# EAGLE library part LMC660 (library national_semiconductor)
CMOS Quad Operational Amplifier Source: http://www.national.com/JPN/ds/LM/LMC660.pdf
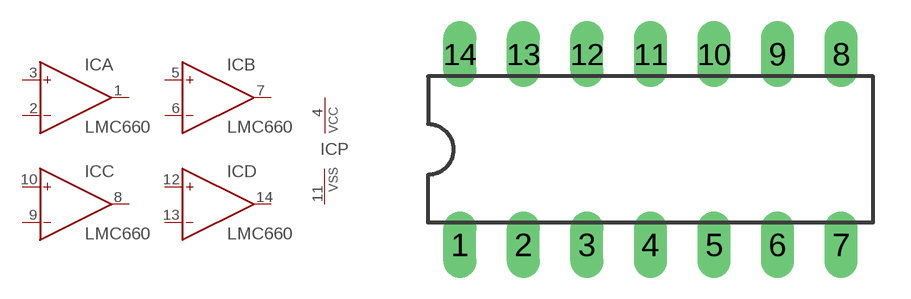
[diagram p2: symbol with the pads of DIL14; footprint DIL14]

Designator prefix IC; gates A=OP C=OP B=OP D=OP P=PWRN

## LMC660  [DIL14]
1  A:OUT  out
2  A:IN-  in
3  A:IN+  in
4  P:VCC  pwr
5  B:IN+  in
6  B:IN-  in
7  B:OUT  out
8  C:OUT  out
9  C:IN-  in
10  C:IN+  in
11  P:VSS  pwr
12  D:IN+  in
13  D:IN-  in
14  D:OUT  out

## Footprint DIL14 (pad centres in mm)
Dual In Line Package
drill 0.813 long: 1 -7.62,-3.81; 2 -5.08,-3.81; 3 -2.54,-3.81; 4 0,-3.81; 5 2.54,-3.81; 6 5.08,-3.81; 7 7.62,-3.81; 8 7.62,3.81; 9 5.08,3.81; 10 2.54,3.81; 11 0,3.81; 12 -2.54,3.81; 13 -5.08,3.81; 14 -7.62,3.81